# Altium integrated library Analog Devices Interface and Isolation Digital Isolators.IntLib: 645 symbols (part 5 of 36)
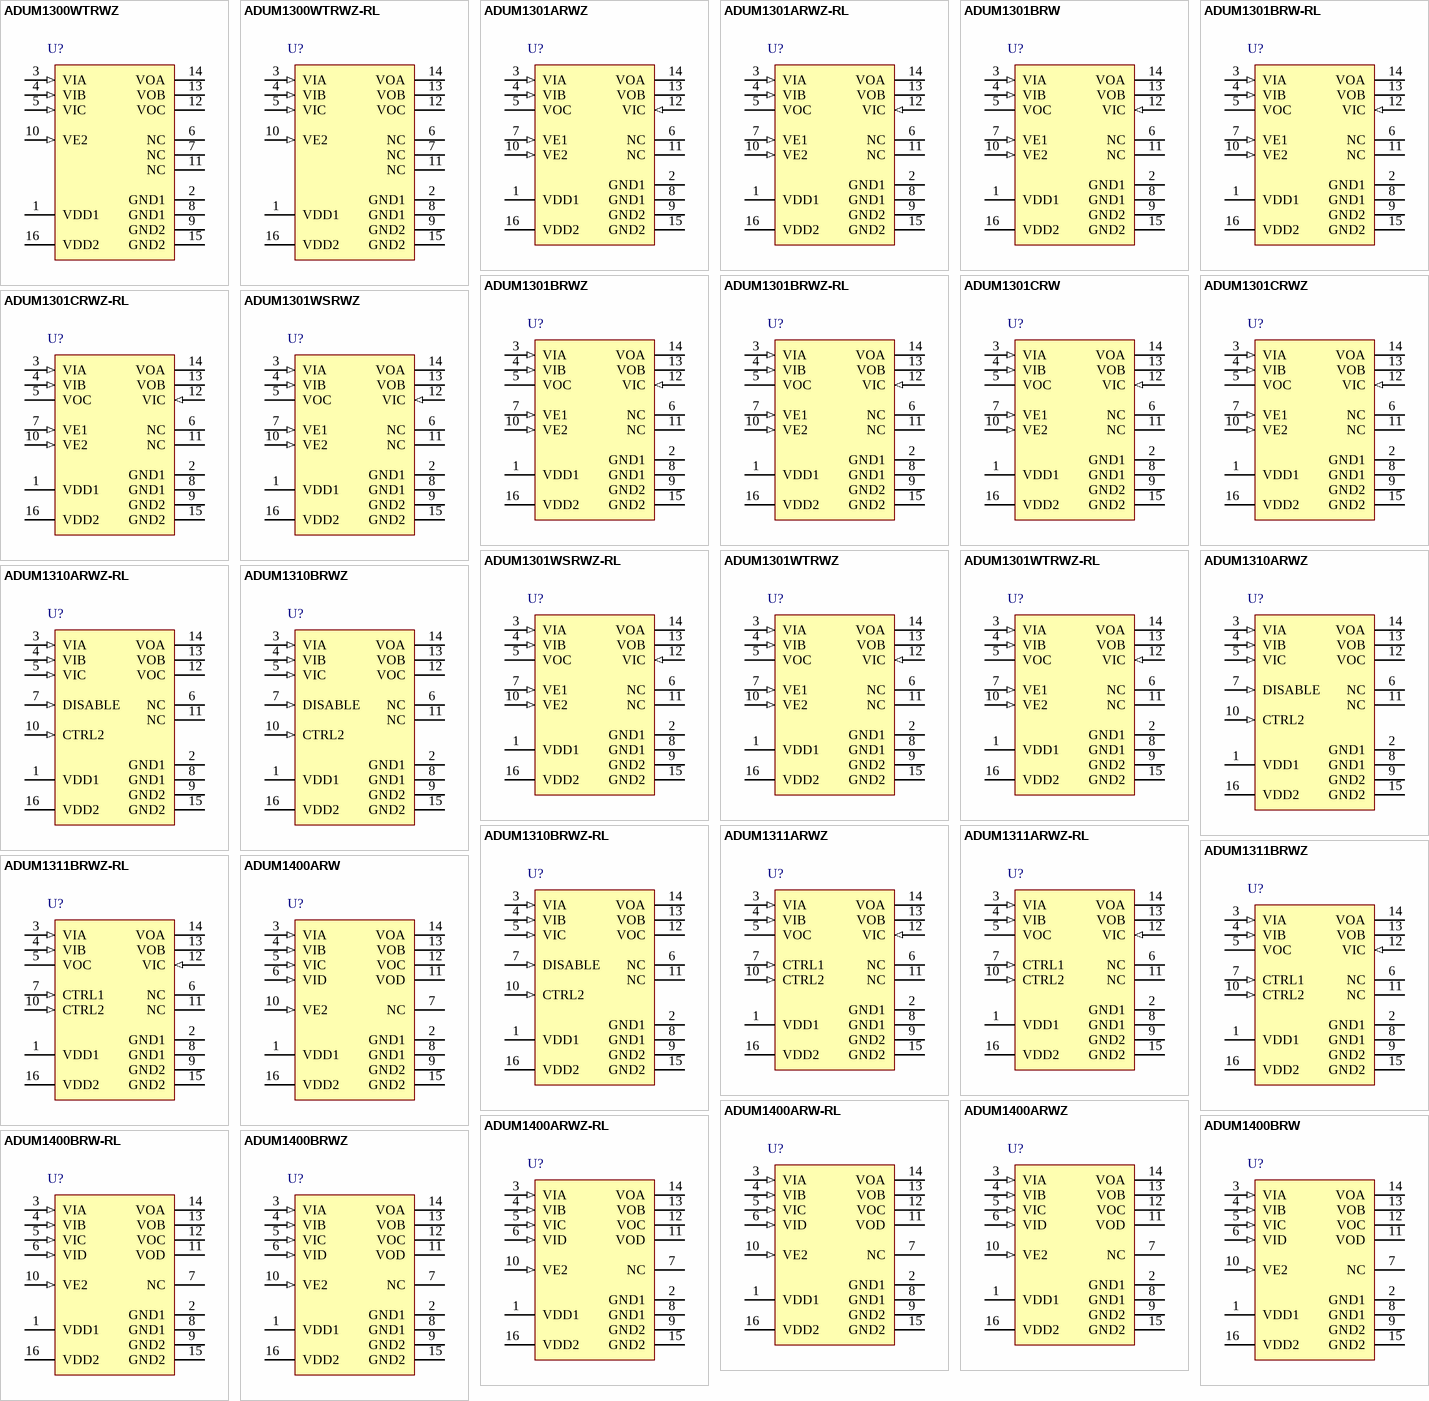
[diagram p24: symbols ADUM1300WTRWZ to ADUM1400BRWZ]

## ADUM1310ARWZ
designator U?
Triple Channel Digital Isolator, 2.5 KV rms Insulation Rating, 1 Mbps Data Rate, 100 ns Delay, Industrial, 16-pin SOIC (RW-16), Tube; Manufacturer: Analog Devices; PartNumber: ADUM1310ARWZ; Insulation Rating (kVrms): 2.5; Max Data Rate: 1Mbps; DatasheetVersion: Rev. H; PackageVersion: 032707-B, 03/2007; PackageReference: RW-16; PackageDescription: 16-Pin Standard Small Outline Package, Body 10.3 x 7.5 mm, Pitch 1.27 mm; Supplier 1: Digi-Key; Supplier Part Number 1: ADUM1310ARWZ-ND; Max Operating Temp (degreesC): 105; Mounting Technology: Surface Mount; Code_JEDEC: MS-013-AA; ComponentLink1Description: Manufacturer URL; ComponentLink1URL: http://www.analog.com/en/index.html; ComponentLink2Description: Datasheet; ComponentLink2URL: http://www.analog.com/static/imported-files/data_sheets/ADUM1310_1311.pdf; ComponentLink3Description: Package Specification; ComponentLink3URL: http://www.analog.com/static/imported-files/packages/PKG_PDF/SOIC_WIDE%20%28RW%29/RW_16.pdf; ComponentLink4Description: URL Link1; ComponentLink4URL: Product URL:http://www.analog.com/en/interface-isolation/digital-isolators/adum1310/products/product.html
footprint ADI-RW-16_N (SOIC, 16-Leads, Body 10.3x7.5mm, Pitch 1.27mm, IPC Medium Density)
footprint ADI-RW-16_L (SOIC, 16-Leads, Body 10.3x7.5mm, Pitch 1.27mm, IPC High Density)
footprint ADI-RW-16_M (SOIC, 16-Leads, Body 10.3x7.5mm, Pitch 1.27mm, IPC Low Density)
pins: 1 VDD1 (power) "Supply Voltage for Isolator Side 1, 2.7 V to 5.5 V.", 2 GND1 (power) "Ground 1. Ground reference for Isolator Side 1.", 3 VIA (in) "Logic Input A.", 4 VIB (in) "Logic Input B.", 5 VIC (in) "Logic Input C.", 6 NC "No Connection.", 7 DISABLE (in) "Input Disable. Disables the isolator inputs and halts the dc refresh circuits. Outputs take on the logic state determined by CTRL2.", 8 GND1 (power) "Ground 1. Ground reference for Isolator Side 1.", 9 GND2 (power) "Ground 2. Ground reference for Isolator Side 2.", 10 CTRL2 (in) "Default Output Control. Controls the logic state the outputs take on when the input power is off. VOA, VOB, and VOC outputs are high when CTRL2 is high or disconnected and VDD1 is off. VOA, VOB, and VOC outputs are low when (See Datasheet)", 11 NC "No Connection.", 12 VOC (hiz) "Logic Output C.", 13 VOB (hiz) "Logic Output B.", 14 VOA (hiz) "Logic Output A.", 15 GND2 (power) "Ground 2. Ground reference for Isolator Side 2.", 16 VDD2 (power) "Supply Voltage for Isolator Side 2, 2.7 V to 5.5 V."

## ADUM1310ARWZ-RL
designator U?
Triple Channel Digital Isolator, 2.5 KV rms Insulation Rating, 1 Mbps Data Rate, 100 ns Delay, Industrial, 16-pin SOIC (RW-16), Reel; Manufacturer: Analog Devices; PartNumber: ADUM1310ARWZ-RL; Insulation Rating (kVrms): 2.5; Max Data Rate: 1Mbps; DatasheetVersion: Rev. H; PackageVersion: 032707-B, 03/2007; PackageReference: RW-16; PackageDescription: 16-Pin Standard Small Outline Package, Body 10.3 x 7.5 mm, Pitch 1.27 mm; Supplier 1: Digi-Key; Supplier Part Number 1: ADUM1310ARWZ-RLTR-ND; Max Operating Temp (degreesC): 105; Mounting Technology: Surface Mount; Code_JEDEC: MS-013-AA; ComponentLink1Description: Manufacturer URL; ComponentLink1URL: http://www.analog.com/en/index.html; ComponentLink2Description: Datasheet; ComponentLink2URL: http://www.analog.com/static/imported-files/data_sheets/ADUM1310_1311.pdf; ComponentLink3Description: Package Specification; ComponentLink3URL: http://www.analog.com/static/imported-files/packages/PKG_PDF/SOIC_WIDE%20%28RW%29/RW_16.pdf; ComponentLink4Description: URL Link1; ComponentLink4URL: Product URL:http://www.analog.com/en/interface-isolation/digital-isolators/adum1310/products/product.html
footprint ADI-RW-16_N (SOIC, 16-Leads, Body 10.3x7.5mm, Pitch 1.27mm, IPC Medium Density)
footprint ADI-RW-16_L (SOIC, 16-Leads, Body 10.3x7.5mm, Pitch 1.27mm, IPC High Density)
footprint ADI-RW-16_M (SOIC, 16-Leads, Body 10.3x7.5mm, Pitch 1.27mm, IPC Low Density)
pins: 1 VDD1 (power) "Supply Voltage for Isolator Side 1, 2.7 V to 5.5 V.", 2 GND1 (power) "Ground 1. Ground reference for Isolator Side 1.", 3 VIA (in) "Logic Input A.", 4 VIB (in) "Logic Input B.", 5 VIC (in) "Logic Input C.", 6 NC "No Connection.", 7 DISABLE (in) "Input Disable. Disables the isolator inputs and halts the dc refresh circuits. Outputs take on the logic state determined by CTRL2.", 8 GND1 (power) "Ground 1. Ground reference for Isolator Side 1.", 9 GND2 (power) "Ground 2. Ground reference for Isolator Side 2.", 10 CTRL2 (in) "Default Output Control. Controls the logic state the outputs take on when the input power is off. VOA, VOB, and VOC outputs are high when CTRL2 is high or disconnected and VDD1 is off. VOA, VOB, and VOC outputs are low when (See Datasheet)", 11 NC "No Connection.", 12 VOC (hiz) "Logic Output C.", 13 VOB (hiz) "Logic Output B.", 14 VOA (hiz) "Logic Output A.", 15 GND2 (power) "Ground 2. Ground reference for Isolator Side 2.", 16 VDD2 (power) "Supply Voltage for Isolator Side 2, 2.7 V to 5.5 V."

## ADUM1310BRWZ
designator U?
Triple Channel Digital Isolator, 2.5 KV rms Insulation Rating, 10 Mbps Data Rate, 50 ns Delay, Industrial, 16-pin SOIC (RW-16), Tube; Manufacturer: Analog Devices; PartNumber: ADUM1310BRWZ; Insulation Rating (kVrms): 2.5; Max Data Rate: 10Mbps; DatasheetVersion: Rev. H; PackageVersion: 032707-B, 03/2007; PackageReference: RW-16; PackageDescription: 16-Pin Standard Small Outline Package, Body 10.3 x 7.5 mm, Pitch 1.27 mm; Supplier 1: Digi-Key; Supplier Part Number 1: ADUM1310BRWZ-ND; Max Operating Temp (degreesC): 105; Mounting Technology: Surface Mount; Code_JEDEC: MS-013-AA; ComponentLink1Description: Manufacturer URL; ComponentLink1URL: http://www.analog.com/en/index.html; ComponentLink2Description: Datasheet; ComponentLink2URL: http://www.analog.com/static/imported-files/data_sheets/ADUM1310_1311.pdf; ComponentLink3Description: Package Specification; ComponentLink3URL: http://www.analog.com/static/imported-files/packages/PKG_PDF/SOIC_WIDE%20%28RW%29/RW_16.pdf; ComponentLink4Description: URL Link1; ComponentLink4URL: Product URL:http://www.analog.com/en/interface-isolation/digital-isolators/adum1310/products/product.html
footprint ADI-RW-16_N (SOIC, 16-Leads, Body 10.3x7.5mm, Pitch 1.27mm, IPC Medium Density)
footprint ADI-RW-16_L (SOIC, 16-Leads, Body 10.3x7.5mm, Pitch 1.27mm, IPC High Density)
footprint ADI-RW-16_M (SOIC, 16-Leads, Body 10.3x7.5mm, Pitch 1.27mm, IPC Low Density)
pins: 1 VDD1 (power) "Supply Voltage for Isolator Side 1, 2.7 V to 5.5 V.", 2 GND1 (power) "Ground 1. Ground reference for Isolator Side 1.", 3 VIA (in) "Logic Input A.", 4 VIB (in) "Logic Input B.", 5 VIC (in) "Logic Input C.", 6 NC "No Connection.", 7 DISABLE (in) "Input Disable. Disables the isolator inputs and halts the dc refresh circuits. Outputs take on the logic state determined by CTRL2.", 8 GND1 (power) "Ground 1. Ground reference for Isolator Side 1.", 9 GND2 (power) "Ground 2. Ground reference for Isolator Side 2.", 10 CTRL2 (in) "Default Output Control. Controls the logic state the outputs take on when the input power is off. VOA, VOB, and VOC outputs are high when CTRL2 is high or disconnected and VDD1 is off. VOA, VOB, and VOC outputs are low when (See Datasheet)", 11 NC "No Connection.", 12 VOC (hiz) "Logic Output C.", 13 VOB (hiz) "Logic Output B.", 14 VOA (hiz) "Logic Output A.", 15 GND2 (power) "Ground 2. Ground reference for Isolator Side 2.", 16 VDD2 (power) "Supply Voltage for Isolator Side 2, 2.7 V to 5.5 V."

## ADUM1310BRWZ-RL
designator U?
Triple Channel Digital Isolator, 2.5 KV rms Insulation Rating, 10 Mbps Data Rate, 50 ns Delay, Industrial, 16-pin SOIC (RW-16), Reel; Manufacturer: Analog Devices; PartNumber: ADUM1310BRWZ-RL; Insulation Rating (kVrms): 2.5; Max Data Rate: 10Mbps; DatasheetVersion: Rev. H; PackageVersion: 032707-B, 03/2007; PackageReference: RW-16; PackageDescription: 16-Pin Standard Small Outline Package, Body 10.3 x 7.5 mm, Pitch 1.27 mm; Supplier 1: Digi-Key; Supplier Part Number 1: ADUM1310BRWZ-RL-ND; Max Operating Temp (degreesC): 105; Mounting Technology: Surface Mount; Code_JEDEC: MS-013-AA; ComponentLink1Description: Manufacturer URL; ComponentLink1URL: http://www.analog.com/en/index.html; ComponentLink2Description: Datasheet; ComponentLink2URL: http://www.analog.com/static/imported-files/data_sheets/ADUM1310_1311.pdf; ComponentLink3Description: Package Specification; ComponentLink3URL: http://www.analog.com/static/imported-files/packages/PKG_PDF/SOIC_WIDE%20%28RW%29/RW_16.pdf; ComponentLink4Description: URL Link1; ComponentLink4URL: Product URL:http://www.analog.com/en/interface-isolation/digital-isolators/adum1310/products/product.html
footprint ADI-RW-16_N (SOIC, 16-Leads, Body 10.3x7.5mm, Pitch 1.27mm, IPC Medium Density)
footprint ADI-RW-16_L (SOIC, 16-Leads, Body 10.3x7.5mm, Pitch 1.27mm, IPC High Density)
footprint ADI-RW-16_M (SOIC, 16-Leads, Body 10.3x7.5mm, Pitch 1.27mm, IPC Low Density)
pins: 1 VDD1 (power) "Supply Voltage for Isolator Side 1, 2.7 V to 5.5 V.", 2 GND1 (power) "Ground 1. Ground reference for Isolator Side 1.", 3 VIA (in) "Logic Input A.", 4 VIB (in) "Logic Input B.", 5 VIC (in) "Logic Input C.", 6 NC "No Connection.", 7 DISABLE (in) "Input Disable. Disables the isolator inputs and halts the dc refresh circuits. Outputs take on the logic state determined by CTRL2.", 8 GND1 (power) "Ground 1. Ground reference for Isolator Side 1.", 9 GND2 (power) "Ground 2. Ground reference for Isolator Side 2.", 10 CTRL2 (in) "Default Output Control. Controls the logic state the outputs take on when the input power is off. VOA, VOB, and VOC outputs are high when CTRL2 is high or disconnected and VDD1 is off. VOA, VOB, and VOC outputs are low when (See Datasheet)", 11 NC "No Connection.", 12 VOC (hiz) "Logic Output C.", 13 VOB (hiz) "Logic Output B.", 14 VOA (hiz) "Logic Output A.", 15 GND2 (power) "Ground 2. Ground reference for Isolator Side 2.", 16 VDD2 (power) "Supply Voltage for Isolator Side 2, 2.7 V to 5.5 V."

## ADUM1311ARWZ
designator U?
Triple Channel Digital Isolator, 2.5 KV rms Insulation Rating, 1 Mbps Data Rate, 100 ns Delay, Industrial, 16-pin SOIC (RW-16), Tube; Manufacturer: Analog Devices; PartNumber: ADUM1311ARWZ; Insulation Rating (kVrms): 2.5; Max Data Rate: 1Mbps; DatasheetVersion: Rev. H; PackageVersion: 032707-B, 03/2007; PackageReference: RW-16; PackageDescription: 16-Pin Standard Small Outline Package, Body 10.3 x 7.5 mm, Pitch 1.27 mm; Supplier 1: Digi-Key; Supplier Part Number 1: ADUM1311ARWZ-ND; Max Operating Temp (degreesC): 105; Mounting Technology: Surface Mount; Code_JEDEC: MS-013-AA; ComponentLink1Description: Manufacturer URL; ComponentLink1URL: http://www.analog.com/en/index.html; ComponentLink2Description: Datasheet; ComponentLink2URL: http://www.analog.com/static/imported-files/data_sheets/ADUM1310_1311.pdf; ComponentLink3Description: Package Specification; ComponentLink3URL: http://www.analog.com/static/imported-files/packages/PKG_PDF/SOIC_WIDE%20%28RW%29/RW_16.pdf; ComponentLink4Description: URL Link1; ComponentLink4URL: Product URL:http://www.analog.com/en/interface-isolation/digital-isolators/adum1311/products/product.html
footprint ADI-RW-16_N (SOIC, 16-Leads, Body 10.3x7.5mm, Pitch 1.27mm, IPC Medium Density)
footprint ADI-RW-16_L (SOIC, 16-Leads, Body 10.3x7.5mm, Pitch 1.27mm, IPC High Density)
footprint ADI-RW-16_M (SOIC, 16-Leads, Body 10.3x7.5mm, Pitch 1.27mm, IPC Low Density)
pins: 1 VDD1 (power) "Supply Voltage for Isolator Side 1, 2.7 V to 5.5 V.", 2 GND1 (power) "Ground 1. Ground reference for Isolator Side 1.", 3 VIA (in) "Logic Input A.", 4 VIB (in) "Logic Input B.", 5 VOC (hiz) "Logic Output C.", 6 NC "No Connection.", 7 CTRL1 (in) "Default Output Control. Controls the logic state the outputs take on when the input power is off. VOC output is high when CTRL1 is high or disconnected and VDD2 is off. VOC output is low when CTRL1 is low and VDD2 is off. (See Datasheet)", 8 GND1 (power) "Ground 1. Ground reference for Isolator Side 1.", 9 GND2 (power) "Ground 2. Ground reference for Isolator Side 2.", 10 CTRL2 (in) "Default Output Control. Controls the logic state the outputs take on when the input power is off. VOA and VOB outputs are high when CTRL2 is high or disconnected and VDD1 is off. VOA and VOB outputs are low when CTRL2 is low (See Datasheet)", 11 NC "No Connection.", 12 VIC (in) "Logic Input C.", 13 VOB (hiz) "Logic Output B.", 14 VOA (hiz) "Logic Output A.", 15 GND2 (power) "Ground 2. Ground reference for Isolator Side 2.", 16 VDD2 (power) "Supply Voltage for Isolator Side 2, 2.7 V to 5.5 V."

## ADUM1311ARWZ-RL
designator U?
Triple Channel Digital Isolator, 2.5 KV rms Insulation Rating, 1 Mbps Data Rate, 100 ns Delay, Industrial, 16-pin SOIC (RW-16), Reel; Manufacturer: Analog Devices; PartNumber: ADUM1311ARWZ-RL; Insulation Rating (kVrms): 2.5; Max Data Rate: 1Mbps; DatasheetVersion: Rev. H; PackageVersion: 032707-B, 03/2007; PackageReference: RW-16; PackageDescription: 16-Pin Standard Small Outline Package, Body 10.3 x 7.5 mm, Pitch 1.27 mm; Supplier 1: Digi-Key; Supplier Part Number 1: ADUM1311ARWZ-RLTR-ND; Max Operating Temp (degreesC): 105; Mounting Technology: Surface Mount; Code_JEDEC: MS-013-AA; ComponentLink1Description: Manufacturer URL; ComponentLink1URL: http://www.analog.com/en/index.html; ComponentLink2Description: Datasheet; ComponentLink2URL: http://www.analog.com/static/imported-files/data_sheets/ADUM1310_1311.pdf; ComponentLink3Description: Package Specification; ComponentLink3URL: http://www.analog.com/static/imported-files/packages/PKG_PDF/SOIC_WIDE%20%28RW%29/RW_16.pdf; ComponentLink4Description: URL Link1; ComponentLink4URL: Product URL:http://www.analog.com/en/interface-isolation/digital-isolators/adum1311/products/product.html
footprint ADI-RW-16_N (SOIC, 16-Leads, Body 10.3x7.5mm, Pitch 1.27mm, IPC Medium Density)
footprint ADI-RW-16_L (SOIC, 16-Leads, Body 10.3x7.5mm, Pitch 1.27mm, IPC High Density)
footprint ADI-RW-16_M (SOIC, 16-Leads, Body 10.3x7.5mm, Pitch 1.27mm, IPC Low Density)
pins: 1 VDD1 (power) "Supply Voltage for Isolator Side 1, 2.7 V to 5.5 V.", 2 GND1 (power) "Ground 1. Ground reference for Isolator Side 1.", 3 VIA (in) "Logic Input A.", 4 VIB (in) "Logic Input B.", 5 VOC (hiz) "Logic Output C.", 6 NC "No Connection.", 7 CTRL1 (in) "Default Output Control. Controls the logic state the outputs take on when the input power is off. VOC output is high when CTRL1 is high or disconnected and VDD2 is off. VOC output is low when CTRL1 is low and VDD2 is off. (See Datasheet)", 8 GND1 (power) "Ground 1. Ground reference for Isolator Side 1.", 9 GND2 (power) "Ground 2. Ground reference for Isolator Side 2.", 10 CTRL2 (in) "Default Output Control. Controls the logic state the outputs take on when the input power is off. VOA and VOB outputs are high when CTRL2 is high or disconnected and VDD1 is off. VOA and VOB outputs are low when CTRL2 is low (See Datasheet)", 11 NC "No Connection.", 12 VIC (in) "Logic Input C.", 13 VOB (hiz) "Logic Output B.", 14 VOA (hiz) "Logic Output A.", 15 GND2 (power) "Ground 2. Ground reference for Isolator Side 2.", 16 VDD2 (power) "Supply Voltage for Isolator Side 2, 2.7 V to 5.5 V."

## ADUM1311BRWZ
designator U?
Triple Channel Digital Isolator, 2.5 KV rms Insulation Rating, 10 Mbps Data Rate, 50 ns Delay, Industrial, 16-pin SOIC (RW-16), Tube; Manufacturer: Analog Devices; PartNumber: ADUM1311BRWZ; Insulation Rating (kVrms): 2.5; Max Data Rate: 10Mbps; DatasheetVersion: Rev. H; PackageVersion: 032707-B, 03/2007; PackageReference: RW-16; PackageDescription: 16-Pin Standard Small Outline Package, Body 10.3 x 7.5 mm, Pitch 1.27 mm; Supplier 1: Digi-Key; Supplier Part Number 1: ADUM1311BRWZ-ND; Max Operating Temp (degreesC): 105; Mounting Technology: Surface Mount; Code_JEDEC: MS-013-AA; ComponentLink1Description: Manufacturer URL; ComponentLink1URL: http://www.analog.com/en/index.html; ComponentLink2Description: Datasheet; ComponentLink2URL: http://www.analog.com/static/imported-files/data_sheets/ADUM1310_1311.pdf; ComponentLink3Description: Package Specification; ComponentLink3URL: http://www.analog.com/static/imported-files/packages/PKG_PDF/SOIC_WIDE%20%28RW%29/RW_16.pdf; ComponentLink4Description: URL Link1; ComponentLink4URL: Product URL:http://www.analog.com/en/interface-isolation/digital-isolators/adum1311/products/product.html
footprint ADI-RW-16_N (SOIC, 16-Leads, Body 10.3x7.5mm, Pitch 1.27mm, IPC Medium Density)
footprint ADI-RW-16_L (SOIC, 16-Leads, Body 10.3x7.5mm, Pitch 1.27mm, IPC High Density)
footprint ADI-RW-16_M (SOIC, 16-Leads, Body 10.3x7.5mm, Pitch 1.27mm, IPC Low Density)
pins: 1 VDD1 (power) "Supply Voltage for Isolator Side 1, 2.7 V to 5.5 V.", 2 GND1 (power) "Ground 1. Ground reference for Isolator Side 1.", 3 VIA (in) "Logic Input A.", 4 VIB (in) "Logic Input B.", 5 VOC (hiz) "Logic Output C.", 6 NC "No Connection.", 7 CTRL1 (in) "Default Output Control. Controls the logic state the outputs take on when the input power is off. VOC output is high when CTRL1 is high or disconnected and VDD2 is off. VOC output is low when CTRL1 is low and VDD2 is off. (See Datasheet)", 8 GND1 (power) "Ground 1. Ground reference for Isolator Side 1.", 9 GND2 (power) "Ground 2. Ground reference for Isolator Side 2.", 10 CTRL2 (in) "Default Output Control. Controls the logic state the outputs take on when the input power is off. VOA and VOB outputs are high when CTRL2 is high or disconnected and VDD1 is off. VOA and VOB outputs are low when CTRL2 is low (See Datasheet)", 11 NC "No Connection.", 12 VIC (in) "Logic Input C.", 13 VOB (hiz) "Logic Output B.", 14 VOA (hiz) "Logic Output A.", 15 GND2 (power) "Ground 2. Ground reference for Isolator Side 2.", 16 VDD2 (power) "Supply Voltage for Isolator Side 2, 2.7 V to 5.5 V."

## ADUM1311BRWZ-RL
designator U?
Triple Channel Digital Isolator, 2.5 KV rms Insulation Rating, 10 Mbps Data Rate, 50 ns Delay, Industrial, 16-pin SOIC (RW-16), Reel; Manufacturer: Analog Devices; PartNumber: ADUM1311BRWZ-RL; Insulation Rating (kVrms): 2.5; Max Data Rate: 10Mbps; DatasheetVersion: Rev. H; PackageVersion: 032707-B, 03/2007; PackageReference: RW-16; PackageDescription: 16-Pin Standard Small Outline Package, Body 10.3 x 7.5 mm, Pitch 1.27 mm; Supplier 1: Digi-Key; Supplier Part Number 1: ADUM1311BRWZ-RL-ND; Max Operating Temp (degreesC): 105; Mounting Technology: Surface Mount; Code_JEDEC: MS-013-AA; ComponentLink1Description: Manufacturer URL; ComponentLink1URL: http://www.analog.com/en/index.html; ComponentLink2Description: Datasheet; ComponentLink2URL: http://www.analog.com/static/imported-files/data_sheets/ADUM1310_1311.pdf; ComponentLink3Description: Package Specification; ComponentLink3URL: http://www.analog.com/static/imported-files/packages/PKG_PDF/SOIC_WIDE%20%28RW%29/RW_16.pdf; ComponentLink4Description: URL Link1; ComponentLink4URL: Product URL:http://www.analog.com/en/interface-isolation/digital-isolators/adum1311/products/product.html
footprint ADI-RW-16_N (SOIC, 16-Leads, Body 10.3x7.5mm, Pitch 1.27mm, IPC Medium Density)
footprint ADI-RW-16_L (SOIC, 16-Leads, Body 10.3x7.5mm, Pitch 1.27mm, IPC High Density)
footprint ADI-RW-16_M (SOIC, 16-Leads, Body 10.3x7.5mm, Pitch 1.27mm, IPC Low Density)
pins: 1 VDD1 (power) "Supply Voltage for Isolator Side 1, 2.7 V to 5.5 V.", 2 GND1 (power) "Ground 1. Ground reference for Isolator Side 1.", 3 VIA (in) "Logic Input A.", 4 VIB (in) "Logic Input B.", 5 VOC (hiz) "Logic Output C.", 6 NC "No Connection.", 7 CTRL1 (in) "Default Output Control. Controls the logic state the outputs take on when the input power is off. VOC output is high when CTRL1 is high or disconnected and VDD2 is off. VOC output is low when CTRL1 is low and VDD2 is off. (See Datasheet)", 8 GND1 (power) "Ground 1. Ground reference for Isolator Side 1.", 9 GND2 (power) "Ground 2. Ground reference for Isolator Side 2.", 10 CTRL2 (in) "Default Output Control. Controls the logic state the outputs take on when the input power is off. VOA and VOB outputs are high when CTRL2 is high or disconnected and VDD1 is off. VOA and VOB outputs are low when CTRL2 is low (See Datasheet)", 11 NC "No Connection.", 12 VIC (in) "Logic Input C.", 13 VOB (hiz) "Logic Output B.", 14 VOA (hiz) "Logic Output A.", 15 GND2 (power) "Ground 2. Ground reference for Isolator Side 2.", 16 VDD2 (power) "Supply Voltage for Isolator Side 2, 2.7 V to 5.5 V."

## ADUM1400ARW
designator U?
Quad Channel Digital Isolator, 2.5 KV rms Insulation Rating, 1 Mbps Data Rate, 100 ns Delay, Industrial, 16-pin SOIC (RW-16), Tube; Manufacturer: Analog Devices; PartNumber: ADUM1400ARW; Insulation Rating (kVrms): 2.5; Max Data Rate: 1Mbps; DatasheetVersion: Rev. H; PackageVersion: 032707-B, 03/2007; PackageReference: RW-16; PackageDescription: 16-Pin Standard Small Outline Package, Body 10.3 x 7.5 mm, Pitch 1.27 mm; Supplier 1: Digi-Key; Supplier Part Number 1: ADUM1400ARW-ND; Max Operating Temp (degreesC): 125; Mounting Technology: Surface Mount; Code_JEDEC: MS-013-AA; ComponentLink1Description: Manufacturer URL; ComponentLink1URL: http://www.analog.com/en/index.html; ComponentLink2Description: Datasheet; ComponentLink2URL: http://www.analog.com/static/imported-files/data_sheets/ADuM1400_1401_1402.pdf; ComponentLink3Description: Package Specification; ComponentLink3URL: http://www.analog.com/static/imported-files/packages/PKG_PDF/SOIC_WIDE%20%28RW%29/RW_16.pdf; ComponentLink4Description: URL Link1; ComponentLink4URL: Product URL:http://www.analog.com/en/interface-isolation/digital-isolators/adum1400/products/product.html; ComponentLink5Description: URL Link2; ComponentLink5URL: Reference Circuit:http://www.analog.com/en/interface-isolation/digital-isolators/adum1400/products/product.html#product-recommendations
footprint ADI-RW-16_N (SOIC, 16-Leads, Body 10.3x7.5mm, Pitch 1.27mm, IPC Medium Density)
footprint ADI-RW-16_L (SOIC, 16-Leads, Body 10.3x7.5mm, Pitch 1.27mm, IPC High Density)
footprint ADI-RW-16_M (SOIC, 16-Leads, Body 10.3x7.5mm, Pitch 1.27mm, IPC Low Density)
pins: 1 VDD1 (power) "Supply Voltage for Isolator Side 1.", 2 GND1 (power) "Ground 1. Ground reference for Isolator Side 1.", 3 VIA (in) "Logic Input A.", 4 VIB (in) "Logic Input B.", 5 VIC (in) "Logic Input C.", 6 VID (in) "Logic Input D.", 7 NC "No Connect.", 8 GND1 (power) "Ground 1. Ground reference for Isolator Side 1.", 9 GND2 (power) "Ground 2. Ground reference for Isolator Side 2.", 10 VE2 (in) "Output Enable 2. Active high logic input. VOA, VOB, VOC, and VOD outputs are enabled when VE2 is high or disconnected. VOA, VOB, VOC, and VOD outputs are disabled when VE2 is low. In noisy environments, connecting VE2 to an (See Datasheet)", 11 VOD (hiz) "Logic Output D.", 12 VOC (hiz) "Logic Output C.", 13 VOB (hiz) "Logic Output B.", 14 VOA (hiz) "Logic Output A.", 15 GND2 (power) "Ground 2. Ground reference for Isolator Side 2.", 16 VDD2 (power) "Supply Voltage for Isolator Side 2."

## ADUM1400ARW-RL
designator U?
Quad Channel Digital Isolator, 2.5 KV rms Insulation Rating, 1 Mbps Data Rate, 100 ns Delay, Industrial, 16-pin SOIC (RW-16), Reel; Manufacturer: Analog Devices; PartNumber: ADUM1400ARW-RL; Insulation Rating (kVrms): 2.5; Max Data Rate: 1Mbps; DatasheetVersion: Rev. H; PackageVersion: 032707-B, 03/2007; PackageReference: RW-16; PackageDescription: 16-Pin Standard Small Outline Package, Body 10.3 x 7.5 mm, Pitch 1.27 mm; Supplier 1: Digi-Key; Supplier Part Number 1: ADUM1400ARW-RL-ND; Max Operating Temp (degreesC): 125; Mounting Technology: Surface Mount; Code_JEDEC: MS-013-AA; ComponentLink1Description: Manufacturer URL; ComponentLink1URL: http://www.analog.com/en/index.html; ComponentLink2Description: Datasheet; ComponentLink2URL: http://www.analog.com/static/imported-files/data_sheets/ADuM1400_1401_1402.pdf; ComponentLink3Description: Package Specification; ComponentLink3URL: http://www.analog.com/static/imported-files/packages/PKG_PDF/SOIC_WIDE%20%28RW%29/RW_16.pdf; ComponentLink4Description: URL Link1; ComponentLink4URL: Product URL:http://www.analog.com/en/interface-isolation/digital-isolators/adum1400/products/product.html; ComponentLink5Description: URL Link2; ComponentLink5URL: Reference Circuit:http://www.analog.com/en/interface-isolation/digital-isolators/adum1400/products/product.html#product-recommendations
footprint ADI-RW-16_N (SOIC, 16-Leads, Body 10.3x7.5mm, Pitch 1.27mm, IPC Medium Density)
footprint ADI-RW-16_L (SOIC, 16-Leads, Body 10.3x7.5mm, Pitch 1.27mm, IPC High Density)
footprint ADI-RW-16_M (SOIC, 16-Leads, Body 10.3x7.5mm, Pitch 1.27mm, IPC Low Density)
pins: 1 VDD1 (power) "Supply Voltage for Isolator Side 1.", 2 GND1 (power) "Ground 1. Ground reference for Isolator Side 1.", 3 VIA (in) "Logic Input A.", 4 VIB (in) "Logic Input B.", 5 VIC (in) "Logic Input C.", 6 VID (in) "Logic Input D.", 7 NC "No Connect.", 8 GND1 (power) "Ground 1. Ground reference for Isolator Side 1.", 9 GND2 (power) "Ground 2. Ground reference for Isolator Side 2.", 10 VE2 (in) "Output Enable 2. Active high logic input. VOA, VOB, VOC, and VOD outputs are enabled when VE2 is high or disconnected. VOA, VOB, VOC, and VOD outputs are disabled when VE2 is low. In noisy environments, connecting VE2 to an (See Datasheet)", 11 VOD (hiz) "Logic Output D.", 12 VOC (hiz) "Logic Output C.", 13 VOB (hiz) "Logic Output B.", 14 VOA (hiz) "Logic Output A.", 15 GND2 (power) "Ground 2. Ground reference for Isolator Side 2.", 16 VDD2 (power) "Supply Voltage for Isolator Side 2."

## ADUM1400ARWZ
designator U?
Quad Channel Digital Isolator, 2.5 KV rms Insulation Rating, 1 Mbps Data Rate, 100 ns Delay, Industrial, 16-pin SOIC (RW-16), Tube; Manufacturer: Analog Devices; PartNumber: ADUM1400ARWZ; Insulation Rating (kVrms): 2.5; Max Data Rate: 1Mbps; DatasheetVersion: Rev. H; PackageVersion: 032707-B, 03/2007; PackageReference: RW-16; PackageDescription: 16-Pin Standard Small Outline Package, Body 10.3 x 7.5 mm, Pitch 1.27 mm; Supplier 1: Digi-Key; Supplier Part Number 1: ADUM1400ARWZ-ND; Max Operating Temp (degreesC): 125; Mounting Technology: Surface Mount; Code_JEDEC: MS-013-AA; ComponentLink1Description: Manufacturer URL; ComponentLink1URL: http://www.analog.com/en/index.html; ComponentLink2Description: Datasheet; ComponentLink2URL: http://www.analog.com/static/imported-files/data_sheets/ADuM1400_1401_1402.pdf; ComponentLink3Description: Package Specification; ComponentLink3URL: http://www.analog.com/static/imported-files/packages/PKG_PDF/SOIC_WIDE%20%28RW%29/RW_16.pdf; ComponentLink4Description: URL Link1; ComponentLink4URL: Product URL:http://www.analog.com/en/interface-isolation/digital-isolators/adum1400/products/product.html; ComponentLink5Description: URL Link2; ComponentLink5URL: Reference Circuit:http://www.analog.com/en/interface-isolation/digital-isolators/adum1400/products/product.html#product-recommendations
footprint ADI-RW-16_N (SOIC, 16-Leads, Body 10.3x7.5mm, Pitch 1.27mm, IPC Medium Density)
footprint ADI-RW-16_L (SOIC, 16-Leads, Body 10.3x7.5mm, Pitch 1.27mm, IPC High Density)
footprint ADI-RW-16_M (SOIC, 16-Leads, Body 10.3x7.5mm, Pitch 1.27mm, IPC Low Density)
pins: 1 VDD1 (power) "Supply Voltage for Isolator Side 1.", 2 GND1 (power) "Ground 1. Ground reference for Isolator Side 1.", 3 VIA (in) "Logic Input A.", 4 VIB (in) "Logic Input B.", 5 VIC (in) "Logic Input C.", 6 VID (in) "Logic Input D.", 7 NC "No Connect.", 8 GND1 (power) "Ground 1. Ground reference for Isolator Side 1.", 9 GND2 (power) "Ground 2. Ground reference for Isolator Side 2.", 10 VE2 (in) "Output Enable 2. Active high logic input. VOA, VOB, VOC, and VOD outputs are enabled when VE2 is high or disconnected. VOA, VOB, VOC, and VOD outputs are disabled when VE2 is low. In noisy environments, connecting VE2 to an (See Datasheet)", 11 VOD (hiz) "Logic Output D.", 12 VOC (hiz) "Logic Output C.", 13 VOB (hiz) "Logic Output B.", 14 VOA (hiz) "Logic Output A.", 15 GND2 (power) "Ground 2. Ground reference for Isolator Side 2.", 16 VDD2 (power) "Supply Voltage for Isolator Side 2."

## ADUM1400ARWZ-RL
designator U?
Quad Channel Digital Isolator, 2.5 KV rms Insulation Rating, 1 Mbps Data Rate, 100 ns Delay, Industrial, 16-pin SOIC (RW-16), Reel; Manufacturer: Analog Devices; PartNumber: ADUM1400ARWZ-RL; Insulation Rating (kVrms): 2.5; Max Data Rate: 1Mbps; DatasheetVersion: Rev. H; PackageVersion: 032707-B, 03/2007; PackageReference: RW-16; PackageDescription: 16-Pin Standard Small Outline Package, Body 10.3 x 7.5 mm, Pitch 1.27 mm; Supplier 1: Digi-Key; Supplier Part Number 1: ADUM1400ARWZ-RLTR-ND; Max Operating Temp (degreesC): 125; Mounting Technology: Surface Mount; Code_JEDEC: MS-013-AA; ComponentLink1Description: Manufacturer URL; ComponentLink1URL: http://www.analog.com/en/index.html; ComponentLink2Description: Datasheet; ComponentLink2URL: http://www.analog.com/static/imported-files/data_sheets/ADuM1400_1401_1402.pdf; ComponentLink3Description: Package Specification; ComponentLink3URL: http://www.analog.com/static/imported-files/packages/PKG_PDF/SOIC_WIDE%20%28RW%29/RW_16.pdf; ComponentLink4Description: URL Link1; ComponentLink4URL: Product URL:http://www.analog.com/en/interface-isolation/digital-isolators/adum1400/products/product.html; ComponentLink5Description: URL Link2; ComponentLink5URL: Reference Circuit:http://www.analog.com/en/interface-isolation/digital-isolators/adum1400/products/product.html#product-recommendations
footprint ADI-RW-16_N (SOIC, 16-Leads, Body 10.3x7.5mm, Pitch 1.27mm, IPC Medium Density)
footprint ADI-RW-16_L (SOIC, 16-Leads, Body 10.3x7.5mm, Pitch 1.27mm, IPC High Density)
footprint ADI-RW-16_M (SOIC, 16-Leads, Body 10.3x7.5mm, Pitch 1.27mm, IPC Low Density)
pins: 1 VDD1 (power) "Supply Voltage for Isolator Side 1.", 2 GND1 (power) "Ground 1. Ground reference for Isolator Side 1.", 3 VIA (in) "Logic Input A.", 4 VIB (in) "Logic Input B.", 5 VIC (in) "Logic Input C.", 6 VID (in) "Logic Input D.", 7 NC "No Connect.", 8 GND1 (power) "Ground 1. Ground reference for Isolator Side 1.", 9 GND2 (power) "Ground 2. Ground reference for Isolator Side 2.", 10 VE2 (in) "Output Enable 2. Active high logic input. VOA, VOB, VOC, and VOD outputs are enabled when VE2 is high or disconnected. VOA, VOB, VOC, and VOD outputs are disabled when VE2 is low. In noisy environments, connecting VE2 to an (See Datasheet)", 11 VOD (hiz) "Logic Output D.", 12 VOC (hiz) "Logic Output C.", 13 VOB (hiz) "Logic Output B.", 14 VOA (hiz) "Logic Output A.", 15 GND2 (power) "Ground 2. Ground reference for Isolator Side 2.", 16 VDD2 (power) "Supply Voltage for Isolator Side 2."

## ADUM1400BRW
designator U?
Quad Channel Digital Isolator, 2.5 KV rms Insulation Rating, 10 Mbps Data Rate, 50 ns Delay, Industrial, 16-pin SOIC (RW-16), Tube; Manufacturer: Analog Devices; PartNumber: ADUM1400BRW; Insulation Rating (kVrms): 2.5; Max Data Rate: 10Mbps; DatasheetVersion: Rev. H; PackageVersion: 032707-B, 03/2007; PackageReference: RW-16; PackageDescription: 16-Pin Standard Small Outline Package, Body 10.3 x 7.5 mm, Pitch 1.27 mm; Supplier 1: Digi-Key; Supplier Part Number 1: ADUM1400BRW-ND; Max Operating Temp (degreesC): 125; Mounting Technology: Surface Mount; Code_JEDEC: MS-013-AA; ComponentLink1Description: Manufacturer URL; ComponentLink1URL: http://www.analog.com/en/index.html; ComponentLink2Description: Datasheet; ComponentLink2URL: http://www.analog.com/static/imported-files/data_sheets/ADuM1400_1401_1402.pdf; ComponentLink3Description: Package Specification; ComponentLink3URL: http://www.analog.com/static/imported-files/packages/PKG_PDF/SOIC_WIDE%20%28RW%29/RW_16.pdf; ComponentLink4Description: URL Link1; ComponentLink4URL: Product URL:http://www.analog.com/en/interface-isolation/digital-isolators/adum1400/products/product.html; ComponentLink5Description: URL Link2; ComponentLink5URL: Reference Circuit:http://www.analog.com/en/interface-isolation/digital-isolators/adum1400/products/product.html#product-recommendations
footprint ADI-RW-16_N (SOIC, 16-Leads, Body 10.3x7.5mm, Pitch 1.27mm, IPC Medium Density)
footprint ADI-RW-16_L (SOIC, 16-Leads, Body 10.3x7.5mm, Pitch 1.27mm, IPC High Density)
footprint ADI-RW-16_M (SOIC, 16-Leads, Body 10.3x7.5mm, Pitch 1.27mm, IPC Low Density)
pins: 1 VDD1 (power) "Supply Voltage for Isolator Side 1.", 2 GND1 (power) "Ground 1. Ground reference for Isolator Side 1.", 3 VIA (in) "Logic Input A.", 4 VIB (in) "Logic Input B.", 5 VIC (in) "Logic Input C.", 6 VID (in) "Logic Input D.", 7 NC "No Connect.", 8 GND1 (power) "Ground 1. Ground reference for Isolator Side 1.", 9 GND2 (power) "Ground 2. Ground reference for Isolator Side 2.", 10 VE2 (in) "Output Enable 2. Active high logic input. VOA, VOB, VOC, and VOD outputs are enabled when VE2 is high or disconnected. VOA, VOB, VOC, and VOD outputs are disabled when VE2 is low. In noisy environments, connecting VE2 to an (See Datasheet)", 11 VOD (hiz) "Logic Output D.", 12 VOC (hiz) "Logic Output C.", 13 VOB (hiz) "Logic Output B.", 14 VOA (hiz) "Logic Output A.", 15 GND2 (power) "Ground 2. Ground reference for Isolator Side 2.", 16 VDD2 (power) "Supply Voltage for Isolator Side 2."

## ADUM1400BRW-RL
designator U?
Quad Channel Digital Isolator, 2.5 KV rms Insulation Rating, 10 Mbps Data Rate, 50 ns Delay, Industrial, 16-pin SOIC (RW-16), Reel; Manufacturer: Analog Devices; PartNumber: ADUM1400BRW-RL; Insulation Rating (kVrms): 2.5; Max Data Rate: 10Mbps; DatasheetVersion: Rev. H; PackageVersion: 032707-B, 03/2007; PackageReference: RW-16; PackageDescription: 16-Pin Standard Small Outline Package, Body 10.3 x 7.5 mm, Pitch 1.27 mm; Supplier 1: Digi-Key; Supplier Part Number 1: ADUM1400BRW-RL-ND; Max Operating Temp (degreesC): 125; Mounting Technology: Surface Mount; Code_JEDEC: MS-013-AA; ComponentLink1Description: Manufacturer URL; ComponentLink1URL: http://www.analog.com/en/index.html; ComponentLink2Description: Datasheet; ComponentLink2URL: http://www.analog.com/static/imported-files/data_sheets/ADuM1400_1401_1402.pdf; ComponentLink3Description: Package Specification; ComponentLink3URL: http://www.analog.com/static/imported-files/packages/PKG_PDF/SOIC_WIDE%20%28RW%29/RW_16.pdf; ComponentLink4Description: URL Link1; ComponentLink4URL: Product URL:http://www.analog.com/en/interface-isolation/digital-isolators/adum1400/products/product.html; ComponentLink5Description: URL Link2; ComponentLink5URL: Reference Circuit:http://www.analog.com/en/interface-isolation/digital-isolators/adum1400/products/product.html#product-recommendations
footprint ADI-RW-16_N (SOIC, 16-Leads, Body 10.3x7.5mm, Pitch 1.27mm, IPC Medium Density)
footprint ADI-RW-16_L (SOIC, 16-Leads, Body 10.3x7.5mm, Pitch 1.27mm, IPC High Density)
footprint ADI-RW-16_M (SOIC, 16-Leads, Body 10.3x7.5mm, Pitch 1.27mm, IPC Low Density)
pins: 1 VDD1 (power) "Supply Voltage for Isolator Side 1.", 2 GND1 (power) "Ground 1. Ground reference for Isolator Side 1.", 3 VIA (in) "Logic Input A.", 4 VIB (in) "Logic Input B.", 5 VIC (in) "Logic Input C.", 6 VID (in) "Logic Input D.", 7 NC "No Connect.", 8 GND1 (power) "Ground 1. Ground reference for Isolator Side 1.", 9 GND2 (power) "Ground 2. Ground reference for Isolator Side 2.", 10 VE2 (in) "Output Enable 2. Active high logic input. VOA, VOB, VOC, and VOD outputs are enabled when VE2 is high or disconnected. VOA, VOB, VOC, and VOD outputs are disabled when VE2 is low. In noisy environments, connecting VE2 to an (See Datasheet)", 11 VOD (hiz) "Logic Output D.", 12 VOC (hiz) "Logic Output C.", 13 VOB (hiz) "Logic Output B.", 14 VOA (hiz) "Logic Output A.", 15 GND2 (power) "Ground 2. Ground reference for Isolator Side 2.", 16 VDD2 (power) "Supply Voltage for Isolator Side 2."

## ADUM1400BRWZ
designator U?
Quad Channel Digital Isolator, 2.5 KV rms Insulation Rating, 10 Mbps Data Rate, 50 ns Delay, Industrial, 16-pin SOIC (RW-16), Tube; Manufacturer: Analog Devices; PartNumber: ADUM1400BRWZ; Insulation Rating (kVrms): 2.5; Max Data Rate: 10Mbps; DatasheetVersion: Rev. H; PackageVersion: 032707-B, 03/2007; PackageReference: RW-16; PackageDescription: 16-Pin Standard Small Outline Package, Body 10.3 x 7.5 mm, Pitch 1.27 mm; Supplier 1: Digi-Key; Supplier Part Number 1: ADUM1400BRWZ-ND; Max Operating Temp (degreesC): 125; Mounting Technology: Surface Mount; Code_JEDEC: MS-013-AA; ComponentLink1Description: Manufacturer URL; ComponentLink1URL: http://www.analog.com/en/index.html; ComponentLink2Description: Datasheet; ComponentLink2URL: http://www.analog.com/static/imported-files/data_sheets/ADuM1400_1401_1402.pdf; ComponentLink3Description: Package Specification; ComponentLink3URL: http://www.analog.com/static/imported-files/packages/PKG_PDF/SOIC_WIDE%20%28RW%29/RW_16.pdf; ComponentLink4Description: URL Link1; ComponentLink4URL: Product URL:http://www.analog.com/en/interface-isolation/digital-isolators/adum1400/products/product.html; ComponentLink5Description: URL Link2; ComponentLink5URL: Reference Circuit:http://www.analog.com/en/interface-isolation/digital-isolators/adum1400/products/product.html#product-recommendations
footprint ADI-RW-16_N (SOIC, 16-Leads, Body 10.3x7.5mm, Pitch 1.27mm, IPC Medium Density)
footprint ADI-RW-16_L (SOIC, 16-Leads, Body 10.3x7.5mm, Pitch 1.27mm, IPC High Density)
footprint ADI-RW-16_M (SOIC, 16-Leads, Body 10.3x7.5mm, Pitch 1.27mm, IPC Low Density)
pins: 1 VDD1 (power) "Supply Voltage for Isolator Side 1.", 2 GND1 (power) "Ground 1. Ground reference for Isolator Side 1.", 3 VIA (in) "Logic Input A.", 4 VIB (in) "Logic Input B.", 5 VIC (in) "Logic Input C.", 6 VID (in) "Logic Input D.", 7 NC "No Connect.", 8 GND1 (power) "Ground 1. Ground reference for Isolator Side 1.", 9 GND2 (power) "Ground 2. Ground reference for Isolator Side 2.", 10 VE2 (in) "Output Enable 2. Active high logic input. VOA, VOB, VOC, and VOD outputs are enabled when VE2 is high or disconnected. VOA, VOB, VOC, and VOD outputs are disabled when VE2 is low. In noisy environments, connecting VE2 to an (See Datasheet)", 11 VOD (hiz) "Logic Output D.", 12 VOC (hiz) "Logic Output C.", 13 VOB (hiz) "Logic Output B.", 14 VOA (hiz) "Logic Output A.", 15 GND2 (power) "Ground 2. Ground reference for Isolator Side 2.", 16 VDD2 (power) "Supply Voltage for Isolator Side 2."

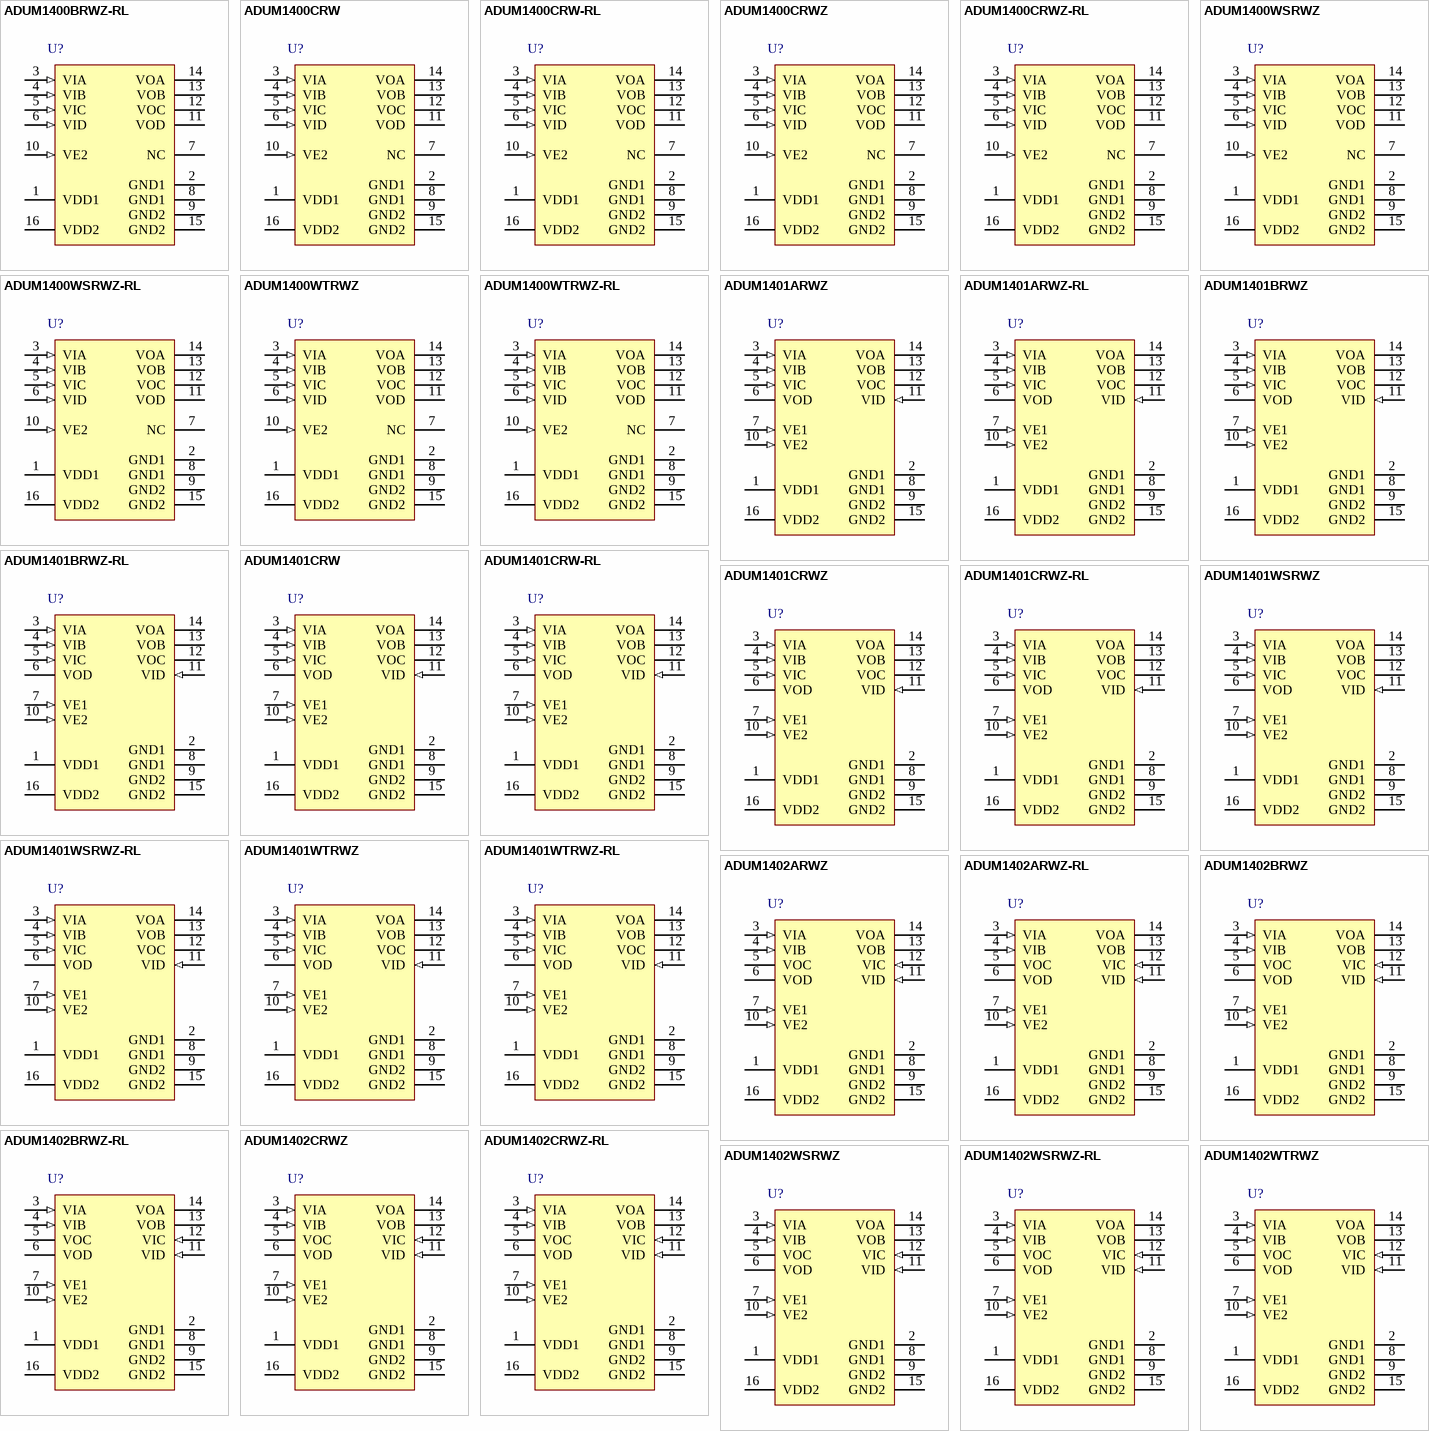
[diagram p3: symbols ADUM1400BRWZ-RL to ADUM1402WTRWZ]

## ADUM1400BRWZ-RL
designator U?
Quad Channel Digital Isolator, 2.5 KV rms Insulation Rating, 10 Mbps Data Rate, 50 ns Delay, Industrial, 16-pin SOIC (RW-16), Reel; Manufacturer: Analog Devices; PartNumber: ADUM1400BRWZ-RL; Insulation Rating (kVrms): 2.5; Max Data Rate: 10Mbps; DatasheetVersion: Rev. H; PackageVersion: 032707-B, 03/2007; PackageReference: RW-16; PackageDescription: 16-Pin Standard Small Outline Package, Body 10.3 x 7.5 mm, Pitch 1.27 mm; Supplier 1: Digi-Key; Supplier Part Number 1: ADUM1400BRWZ-RLTR-ND; Max Operating Temp (degreesC): 125; Mounting Technology: Surface Mount; Code_JEDEC: MS-013-AA; ComponentLink1Description: Manufacturer URL; ComponentLink1URL: http://www.analog.com/en/index.html; ComponentLink2Description: Datasheet; ComponentLink2URL: http://www.analog.com/static/imported-files/data_sheets/ADuM1400_1401_1402.pdf; ComponentLink3Description: Package Specification; ComponentLink3URL: http://www.analog.com/static/imported-files/packages/PKG_PDF/SOIC_WIDE%20%28RW%29/RW_16.pdf; ComponentLink4Description: URL Link1; ComponentLink4URL: Product URL:http://www.analog.com/en/interface-isolation/digital-isolators/adum1400/products/product.html; ComponentLink5Description: URL Link2; ComponentLink5URL: Reference Circuit:http://www.analog.com/en/interface-isolation/digital-isolators/adum1400/products/product.html#product-recommendations
footprint ADI-RW-16_N (SOIC, 16-Leads, Body 10.3x7.5mm, Pitch 1.27mm, IPC Medium Density)
footprint ADI-RW-16_L (SOIC, 16-Leads, Body 10.3x7.5mm, Pitch 1.27mm, IPC High Density)
footprint ADI-RW-16_M (SOIC, 16-Leads, Body 10.3x7.5mm, Pitch 1.27mm, IPC Low Density)
pins: 1 VDD1 (power) "Supply Voltage for Isolator Side 1.", 2 GND1 (power) "Ground 1. Ground reference for Isolator Side 1.", 3 VIA (in) "Logic Input A.", 4 VIB (in) "Logic Input B.", 5 VIC (in) "Logic Input C.", 6 VID (in) "Logic Input D.", 7 NC "No Connect.", 8 GND1 (power) "Ground 1. Ground reference for Isolator Side 1.", 9 GND2 (power) "Ground 2. Ground reference for Isolator Side 2.", 10 VE2 (in) "Output Enable 2. Active high logic input. VOA, VOB, VOC, and VOD outputs are enabled when VE2 is high or disconnected. VOA, VOB, VOC, and VOD outputs are disabled when VE2 is low. In noisy environments, connecting VE2 to an (See Datasheet)", 11 VOD (hiz) "Logic Output D.", 12 VOC (hiz) "Logic Output C.", 13 VOB (hiz) "Logic Output B.", 14 VOA (hiz) "Logic Output A.", 15 GND2 (power) "Ground 2. Ground reference for Isolator Side 2.", 16 VDD2 (power) "Supply Voltage for Isolator Side 2."

## ADUM1400CRW
designator U?
Quad Channel Digital Isolator, 2.5 KV rms Insulation Rating, 90 Mbps Data Rate, 32 ns Delay, Industrial, 16-pin SOIC (RW-16), Tube; Manufacturer: Analog Devices; PartNumber: ADUM1400CRW; Insulation Rating (kVrms): 2.5; Max Data Rate: 90Mbps; DatasheetVersion: Rev. H; PackageVersion: 032707-B, 03/2007; PackageReference: RW-16; PackageDescription: 16-Pin Standard Small Outline Package, Body 10.3 x 7.5 mm, Pitch 1.27 mm; Supplier 1: Digi-Key; Supplier Part Number 1: ADUM1400CRW-ND; Max Operating Temp (degreesC): 125; Mounting Technology: Surface Mount; Code_JEDEC: MS-013-AA; ComponentLink1Description: Manufacturer URL; ComponentLink1URL: http://www.analog.com/en/index.html; ComponentLink2Description: Datasheet; ComponentLink2URL: http://www.analog.com/static/imported-files/data_sheets/ADuM1400_1401_1402.pdf; ComponentLink3Description: Package Specification; ComponentLink3URL: http://www.analog.com/static/imported-files/packages/PKG_PDF/SOIC_WIDE%20%28RW%29/RW_16.pdf; ComponentLink4Description: URL Link1; ComponentLink4URL: Product URL:http://www.analog.com/en/interface-isolation/digital-isolators/adum1400/products/product.html; ComponentLink5Description: URL Link2; ComponentLink5URL: Reference Circuit:http://www.analog.com/en/interface-isolation/digital-isolators/adum1400/products/product.html#product-recommendations
footprint ADI-RW-16_N (SOIC, 16-Leads, Body 10.3x7.5mm, Pitch 1.27mm, IPC Medium Density)
footprint ADI-RW-16_L (SOIC, 16-Leads, Body 10.3x7.5mm, Pitch 1.27mm, IPC High Density)
footprint ADI-RW-16_M (SOIC, 16-Leads, Body 10.3x7.5mm, Pitch 1.27mm, IPC Low Density)
pins: 1 VDD1 (power) "Supply Voltage for Isolator Side 1.", 2 GND1 (power) "Ground 1. Ground reference for Isolator Side 1.", 3 VIA (in) "Logic Input A.", 4 VIB (in) "Logic Input B.", 5 VIC (in) "Logic Input C.", 6 VID (in) "Logic Input D.", 7 NC "No Connect.", 8 GND1 (power) "Ground 1. Ground reference for Isolator Side 1.", 9 GND2 (power) "Ground 2. Ground reference for Isolator Side 2.", 10 VE2 (in) "Output Enable 2. Active high logic input. VOA, VOB, VOC, and VOD outputs are enabled when VE2 is high or disconnected. VOA, VOB, VOC, and VOD outputs are disabled when VE2 is low. In noisy environments, connecting VE2 to an (See Datasheet)", 11 VOD (hiz) "Logic Output D.", 12 VOC (hiz) "Logic Output C.", 13 VOB (hiz) "Logic Output B.", 14 VOA (hiz) "Logic Output A.", 15 GND2 (power) "Ground 2. Ground reference for Isolator Side 2.", 16 VDD2 (power) "Supply Voltage for Isolator Side 2."

## ADUM1400CRW-RL
designator U?
Quad Channel Digital Isolator, 2.5 KV rms Insulation Rating, 90 Mbps Data Rate, 32 ns Delay, Industrial, 16-pin SOIC (RW-16), Reel; Manufacturer: Analog Devices; PartNumber: ADUM1400CRW-RL; Insulation Rating (kVrms): 2.5; Max Data Rate: 90Mbps; DatasheetVersion: Rev. H; PackageVersion: 032707-B, 03/2007; PackageReference: RW-16; PackageDescription: 16-Pin Standard Small Outline Package, Body 10.3 x 7.5 mm, Pitch 1.27 mm; Supplier 1: Digi-Key; Supplier Part Number 1: ADUM1400CRW-RL-ND; Max Operating Temp (degreesC): 125; Mounting Technology: Surface Mount; Code_JEDEC: MS-013-AA; ComponentLink1Description: Manufacturer URL; ComponentLink1URL: http://www.analog.com/en/index.html; ComponentLink2Description: Datasheet; ComponentLink2URL: http://www.analog.com/static/imported-files/data_sheets/ADuM1400_1401_1402.pdf; ComponentLink3Description: Package Specification; ComponentLink3URL: http://www.analog.com/static/imported-files/packages/PKG_PDF/SOIC_WIDE%20%28RW%29/RW_16.pdf; ComponentLink4Description: URL Link1; ComponentLink4URL: Product URL:http://www.analog.com/en/interface-isolation/digital-isolators/adum1400/products/product.html; ComponentLink5Description: URL Link2; ComponentLink5URL: Reference Circuit:http://www.analog.com/en/interface-isolation/digital-isolators/adum1400/products/product.html#product-recommendations
footprint ADI-RW-16_N (SOIC, 16-Leads, Body 10.3x7.5mm, Pitch 1.27mm, IPC Medium Density)
footprint ADI-RW-16_L (SOIC, 16-Leads, Body 10.3x7.5mm, Pitch 1.27mm, IPC High Density)
footprint ADI-RW-16_M (SOIC, 16-Leads, Body 10.3x7.5mm, Pitch 1.27mm, IPC Low Density)
pins: 1 VDD1 (power) "Supply Voltage for Isolator Side 1.", 2 GND1 (power) "Ground 1. Ground reference for Isolator Side 1.", 3 VIA (in) "Logic Input A.", 4 VIB (in) "Logic Input B.", 5 VIC (in) "Logic Input C.", 6 VID (in) "Logic Input D.", 7 NC "No Connect.", 8 GND1 (power) "Ground 1. Ground reference for Isolator Side 1.", 9 GND2 (power) "Ground 2. Ground reference for Isolator Side 2.", 10 VE2 (in) "Output Enable 2. Active high logic input. VOA, VOB, VOC, and VOD outputs are enabled when VE2 is high or disconnected. VOA, VOB, VOC, and VOD outputs are disabled when VE2 is low. In noisy environments, connecting VE2 to an (See Datasheet)", 11 VOD (hiz) "Logic Output D.", 12 VOC (hiz) "Logic Output C.", 13 VOB (hiz) "Logic Output B.", 14 VOA (hiz) "Logic Output A.", 15 GND2 (power) "Ground 2. Ground reference for Isolator Side 2.", 16 VDD2 (power) "Supply Voltage for Isolator Side 2."

## ADUM1400CRWZ
designator U?
Quad Channel Digital Isolator, 2.5 KV rms Insulation Rating, 90 Mbps Data Rate, 32 ns Delay, Industrial, 16-pin SOIC (RW-16), Tube; Manufacturer: Analog Devices; PartNumber: ADUM1400CRWZ; Insulation Rating (kVrms): 2.5; Max Data Rate: 90Mbps; DatasheetVersion: Rev. H; PackageVersion: 032707-B, 03/2007; PackageReference: RW-16; PackageDescription: 16-Pin Standard Small Outline Package, Body 10.3 x 7.5 mm, Pitch 1.27 mm; Supplier 1: Digi-Key; Supplier Part Number 1: ADUM1400CRWZ-ND; Max Operating Temp (degreesC): 125; Mounting Technology: Surface Mount; Code_JEDEC: MS-013-AA; ComponentLink1Description: Manufacturer URL; ComponentLink1URL: http://www.analog.com/en/index.html; ComponentLink2Description: Datasheet; ComponentLink2URL: http://www.analog.com/static/imported-files/data_sheets/ADuM1400_1401_1402.pdf; ComponentLink3Description: Package Specification; ComponentLink3URL: http://www.analog.com/static/imported-files/packages/PKG_PDF/SOIC_WIDE%20%28RW%29/RW_16.pdf; ComponentLink4Description: URL Link1; ComponentLink4URL: Product URL:http://www.analog.com/en/interface-isolation/digital-isolators/adum1400/products/product.html; ComponentLink5Description: URL Link2; ComponentLink5URL: Reference Circuit:http://www.analog.com/en/interface-isolation/digital-isolators/adum1400/products/product.html#product-recommendations
footprint ADI-RW-16_N (SOIC, 16-Leads, Body 10.3x7.5mm, Pitch 1.27mm, IPC Medium Density)
footprint ADI-RW-16_L (SOIC, 16-Leads, Body 10.3x7.5mm, Pitch 1.27mm, IPC High Density)
footprint ADI-RW-16_M (SOIC, 16-Leads, Body 10.3x7.5mm, Pitch 1.27mm, IPC Low Density)
pins: 1 VDD1 (power) "Supply Voltage for Isolator Side 1.", 2 GND1 (power) "Ground 1. Ground reference for Isolator Side 1.", 3 VIA (in) "Logic Input A.", 4 VIB (in) "Logic Input B.", 5 VIC (in) "Logic Input C.", 6 VID (in) "Logic Input D.", 7 NC "No Connect.", 8 GND1 (power) "Ground 1. Ground reference for Isolator Side 1.", 9 GND2 (power) "Ground 2. Ground reference for Isolator Side 2.", 10 VE2 (in) "Output Enable 2. Active high logic input. VOA, VOB, VOC, and VOD outputs are enabled when VE2 is high or disconnected. VOA, VOB, VOC, and VOD outputs are disabled when VE2 is low. In noisy environments, connecting VE2 to an (See Datasheet)", 11 VOD (hiz) "Logic Output D.", 12 VOC (hiz) "Logic Output C.", 13 VOB (hiz) "Logic Output B.", 14 VOA (hiz) "Logic Output A.", 15 GND2 (power) "Ground 2. Ground reference for Isolator Side 2.", 16 VDD2 (power) "Supply Voltage for Isolator Side 2."